# Altium schematic symbol library 8.1   - 二极管-整流桥.SchLib: 7 symbols
Pins are listed as number, name and electrical type; pins without a type are passive.

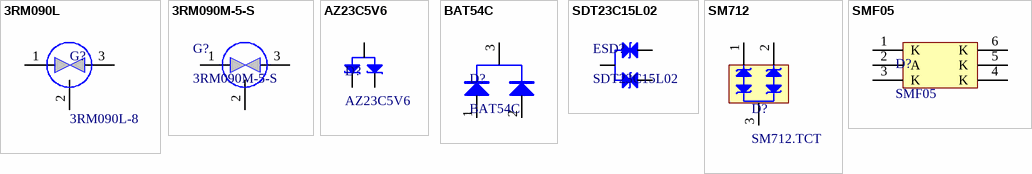
[diagram p0: symbols 3RM090L to SMF05]

## 3RM090L
designator G?, comment 3RM090L-8
陶瓷气体放电管; Manufacturer: Brightking; ComnentNum: CL00506017; Part: 3RM090L-8; Note: Note; Category: 直插放电管
footprint B3D090L (Footprint not found)
pins: 1, 2, 3

## 3RM090M-5-S
designator G?
陶瓷气体放电管
footprint 3SM090M-5-S
pins: 1, 2, 3

## AZ23C5V6
designator D?
300mW双表面贴装齐纳二极管
footprint SOT23-3M (3x1.3x1mm(长宽高))
pins: 1, 2, 3

## BAT54C
designator D?
SURFACT MOUNT SCHOTTKY BARRIER
footprint SOT23-3L (3x1.3x1mm(长宽高))
footprint SOT23-3M (3x1.3x1mm(长宽高))
footprint SOT23-3N (3x1.3x1mm(长宽高))
pins: 1, 2, 3

## SDT23C15L02
designator ESD?
Electrostatic Discharged Protection Devices (ESD)
footprint SOT23-3L (3x1.3x1mm(长宽高))
footprint SOT23-3M (3x1.3x1mm(长宽高))
footprint SOT23-3N (3x1.3x1mm(长宽高))
pins: 1, 2, 3

## SM712
designator D?, comment SM712.TCT
Asymmerical TVS Diode for / Extended Common-Mode RS-485
footprint SOT23-3L (3x1.3x1mm(长宽高))
footprint SOT23-3M (3x1.3x1mm(长宽高))
footprint SOT23-3N (3x1.3x1mm(长宽高))
pins: 1, 2, 3

## SMF05
designator D?
瞬态抑制二极管组，5V
footprint SOT-363
pins: 1 K, 2 A, 3 K, 4 K, 5 K, 6 K